# Altium footprint library MPD_EJ503A.PcbLib: 1 footprints
Each footprint in its own frame and in the unit in brackets; x right, y up, seen from the top. Pads: shape width x height; smd on the part's side, far side on the other; paste and mask are expansions set on the pad; w line width, h text height; cw(c..) or ccw(c..) is an arc to the next point about the centre after c.
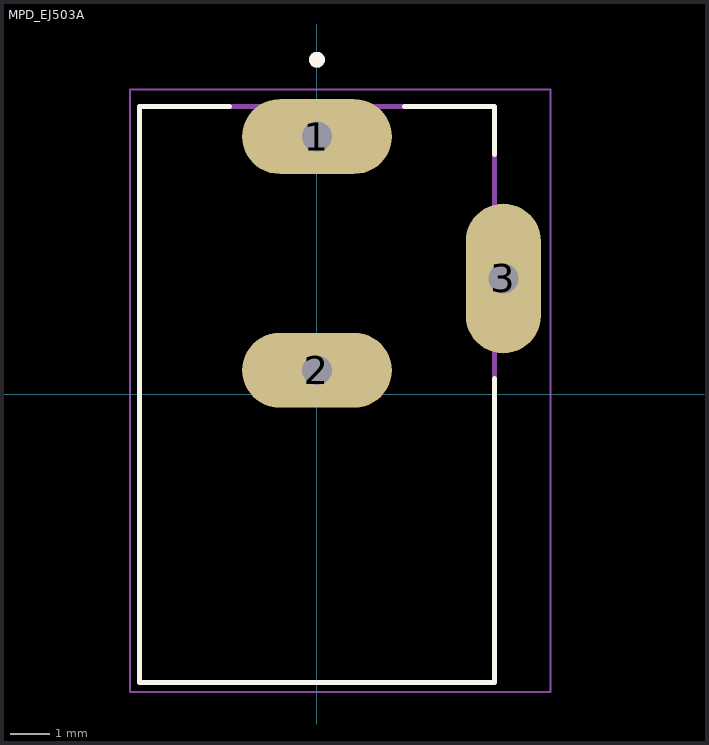
[diagram p0: the footprint, top view; thin cyan lines are the x and y axes]

## MPD_EJ503A [mm]
height 11
pads (3):
  oval 3.8x1.9 hole 0.76 square: 1(0,6.54) 2(0,0.61)
  oval 1.9x3.8 hole 0.76 square: 3(4.73,2.94)
Top Overlay:
  circle w0.2: c0,8.49 r0.1
  lines w0.127: -2.22,7.31 -4.5,7.31 -4.5,-7.31 4.5,-7.31 4.5,0.4 ; 2.22,7.31 4.5,7.31 4.5,6.08
Mechanical 13:
  circle w0.2: c0,8.49 r0.1
  lines w0.127: -4.5,-7.31 -4.5,7.31 4.5,7.31 4.5,-7.31 -4.5,-7.31
Mechanical 15:
  lines w0.05: -4.75,-7.56 -4.75,7.74 5.93,7.74 5.93,-7.56 -4.75,-7.56
3D body "step_temp.STEP": height 11, standoff -4.3, extent -4.5,-7.31 4.88,7.31